# Altium schematic symbol library 750817020.SchLib: 1 symbol
Pins are listed as number, name and electrical type; pins without a type are passive.

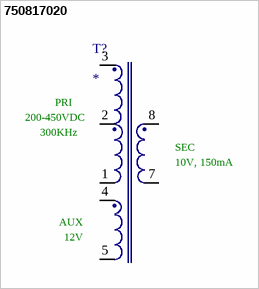
[diagram p0: symbol 750817020]

## 750817020
designator T?
pins: 1, 2, 3, 4, 5, 7, 8
text: PRI; 200-450VDC; 300KHz; SEC; 10V, 150mA; AUX; 12V